# Altium footprint library SMA_DO214_Diode.PcbLib: 1 footprints
Each footprint in its own frame and in the unit in brackets; x right, y up, seen from the top. Pads: shape width x height; smd on the part's side, far side on the other; paste and mask are expansions set on the pad; w line width, h text height; cw(c..) or ccw(c..) is an arc to the next point about the centre after c.
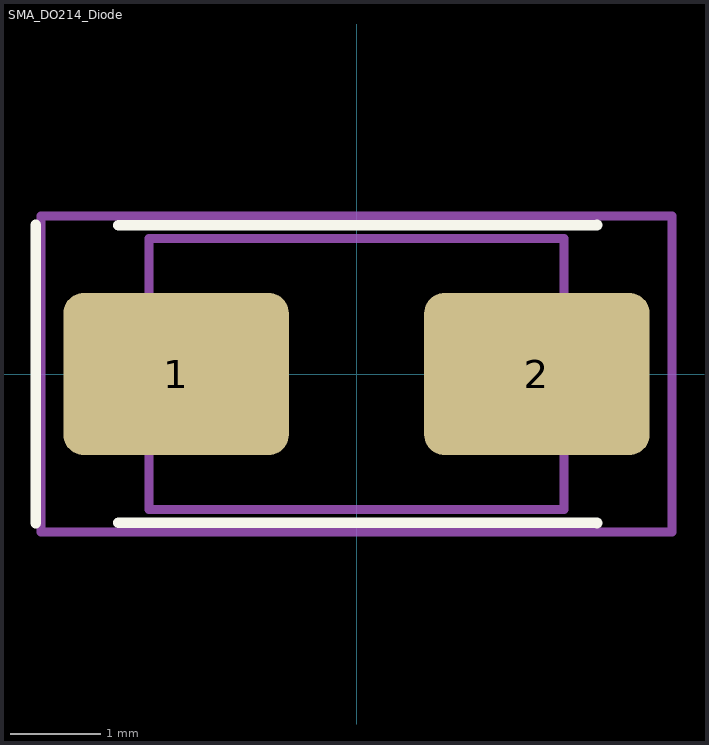
[diagram p0: the footprint, top view; thin cyan lines are the x and y axes]

## SMA_DO214_Diode [mm] "SMA_DO214_Diode"
pads (2):
  rrect25% 2.5x1.8 smd paste+0 mask+0.102: 1(-2,0) 2(2,0)
Top Overlay:
  lines w0.12: -3.556,-1.651 -3.556,1.651 ; -2.638,-1.65 2.667,-1.651 ; -2.638,1.65 2.667,1.651
Mechanical 1:
  lines w0.1: -3.5,-1.75 3.5,-1.75 3.5,1.75 -3.5,1.75 -3.5,-1.75 ; -2.3,-1.5 -2.3,1.5 2.3,1.5 2.3,-1.5 -2.3,-1.5
  text ".Designator" at 0,0.188 h1
Mechanical 15:
  text "+" at -0.5,-0.75 h1.5
3D body "DIODE M7.STEP": height 2.4, standoff -0.03, extent -2.65,-1.8 2.65,1.8